# Altium integrated library Lattice CPLD ispMACH 4000Z.IntLib: 102 symbols (part 2 of 11)
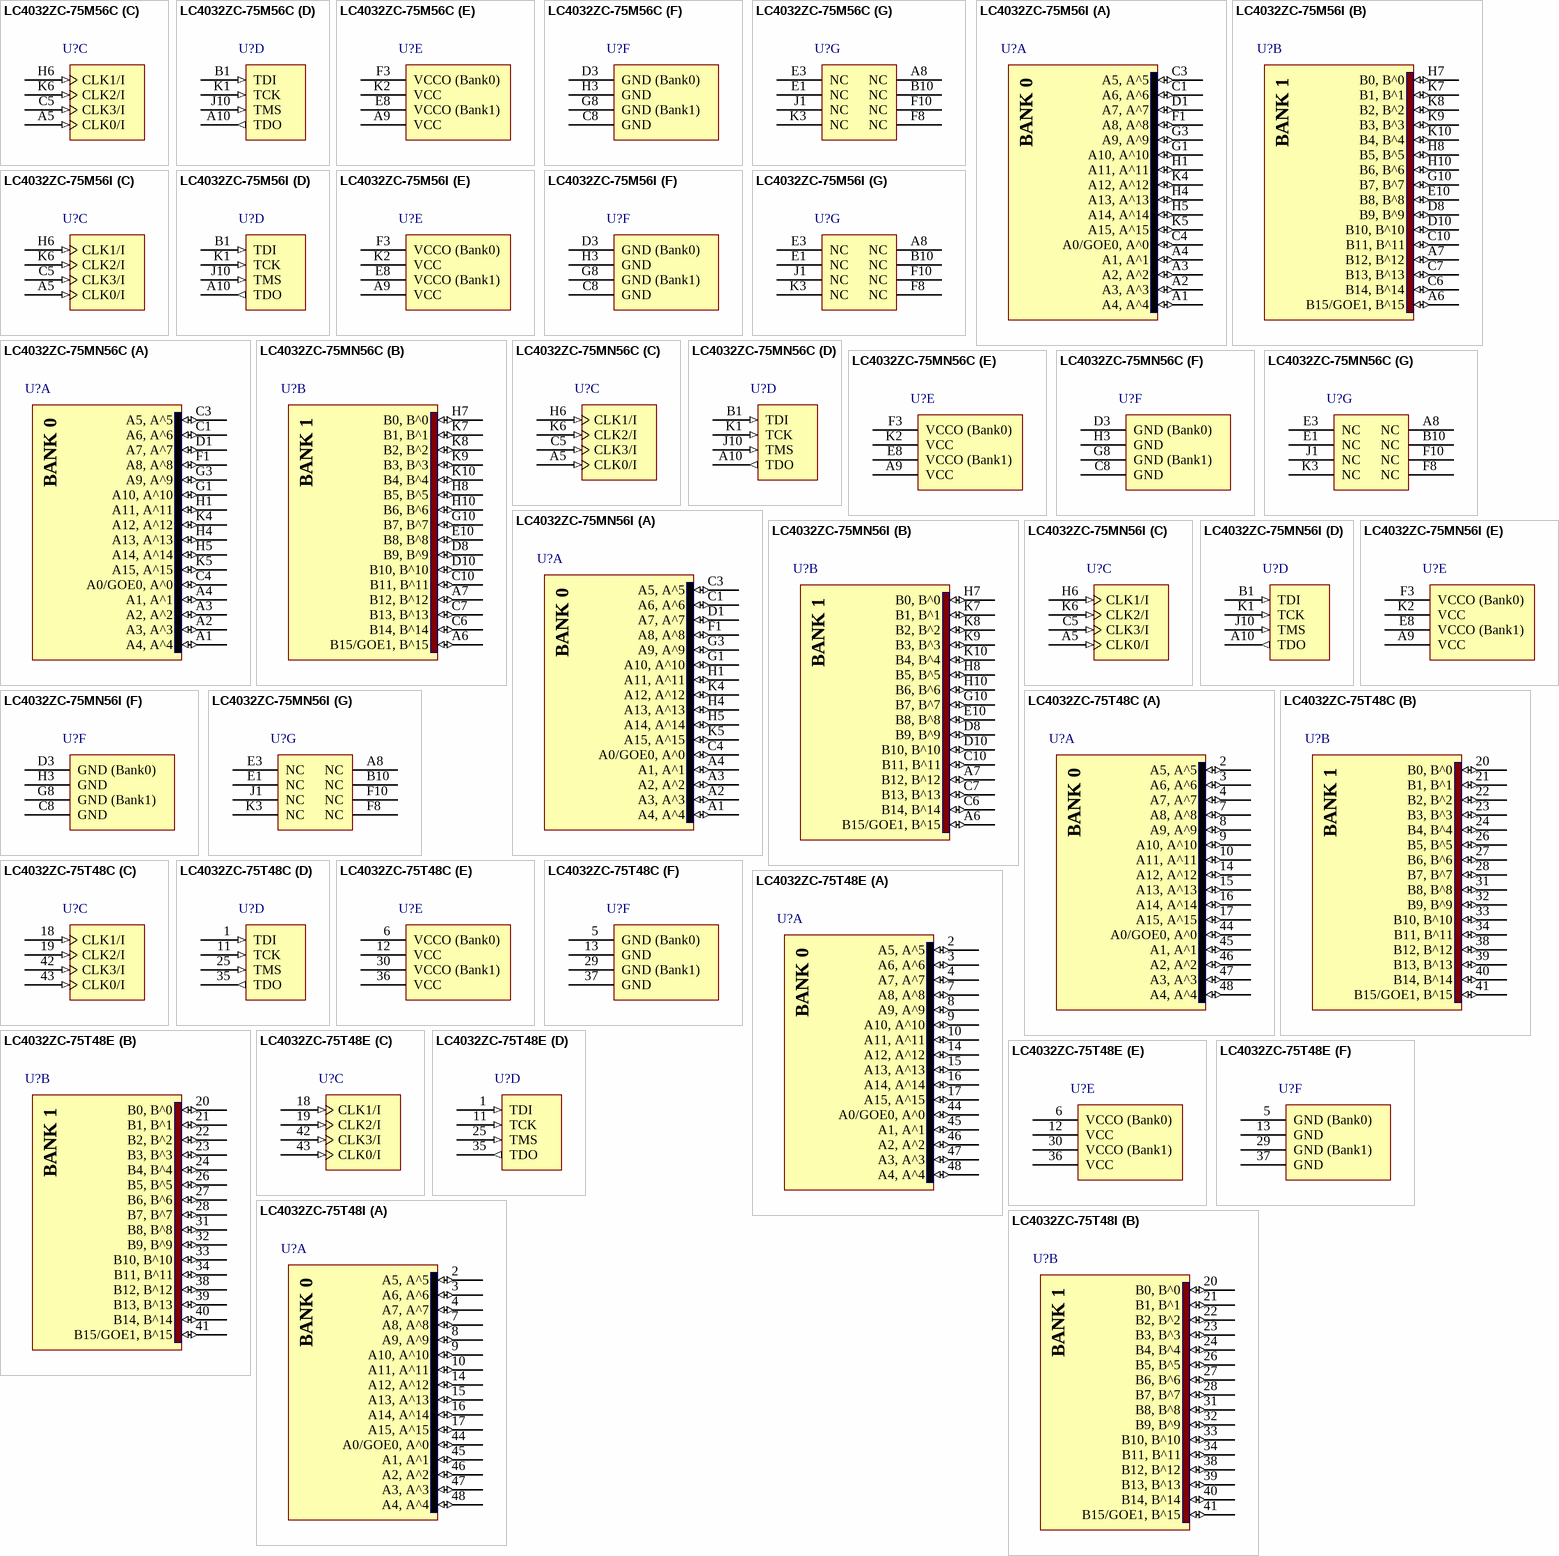
[diagram p29: symbols LC4032ZC-75M56C to LC4032ZC-75T48I]

## LC4032ZC-75MN56C
designator U?
ispMACH 4032 SuperFAST High Density PLD, 1.8 V, 32 User I/Os, 56-Ball caBGA, 7.5 ns, Commercial Grade, Pb-Free; Note: For device migration considerations, NC pins K3, J1, F10, F8, E3, E1, B10, A8 are input signal pins in ispMACH 4064Z devices.; Published: 19-Mar-2004; LatestRevisionDate: 30-Mar-2007; LatestRevisionNote: Banks placed in parts.; DatasheetVersion: ver22.3, Mar-2007; PackageVersion: ver01.2 Feb-2007; PackageReference: csBGA56; Publisher: Altium Limited; PackageDescription: 56-Ball Chip Scale Ball Grid Array (csBGA56); ComponentLink1Description: Manufacturer Link; ComponentLink1URL: http://www.latticesemi.com/; ComponentLink2Description: Datasheet; ComponentLink2URL: http://www.latticesemi.com/dynamic/view_document.cfm?document_id=3646
footprint csBGA56 (BGA, 56-Leads, Body 6x6mm, Pitch 0.5mm)
3D model 4032ZC-csBGA56 (56-Ball Chip Scale Ball Grid Array (csBGA56))
part A pins: A1 A4, A^4 (io) "General purpose I/O.", A2 A3, A^3 (io) "General purpose I/O.", A3 A2, A^2 (io) "General purpose I/O.", A4 A1, A^1 (io) "General purpose I/O.", C1 A6, A^6 (io) "General purpose I/O.", C3 A5, A^5 (io) "General purpose I/O.", C4 A0/GOE0, A^0 (io) "Either Global Output Enable Input or general I/O.", D1 A7, A^7 (io) "General purpose I/O.", F1 A8, A^8 (io) "General purpose I/O.", G1 A10, A^10 (io) "General purpose I/O.", G3 A9, A^9 (io) "General purpose I/O.", H1 A11, A^11 (io) "General purpose I/O.", H4 A13, A^13 (io) "General purpose I/O.", H5 A14, A^14 (io) "General purpose I/O.", K4 A12, A^12 (io) "General purpose I/O.", K5 A15, A^15 (io) "General purpose I/O."
part B pins: A6 B15/GOE1, B^15 (io) "Either Global Output Enable Input or general I/O.", A7 B12, B^12 (io) "General purpose I/O.", C6 B14, B^14 (io) "General purpose I/O.", C7 B13, B^13 (io) "General purpose I/O.", C10 B11, B^11 (io) "General purpose I/O.", D8 B9, B^9 (io) "General purpose I/O.", D10 B10, B^10 (io) "General purpose I/O.", E10 B8, B^8 (io) "General purpose I/O.", G10 B7, B^7 (io) "General purpose I/O.", H7 B0, B^0 (io) "General purpose I/O.", H8 B5, B^5 (io) "General purpose I/O.", H10 B6, B^6 (io) "General purpose I/O.", K7 B1, B^1 (io) "General purpose I/O.", K8 B2, B^2 (io) "General purpose I/O.", K9 B3, B^3 (io) "General purpose I/O.", K10 B4, B^4 (io) "General purpose I/O."
part C pins: A5 CLK0/I (in) "Either CLK input or input.", C5 CLK3/I (in) "Either CLK input or input.", H6 CLK1/I (in) "Either CLK input or input.", K6 CLK2/I (in) "Either CLK input or input."
part D pins: A10 TDO (out) "Test Data Output. Shifts data out of device using 1149.1.", B1 TDI (in) "Test Data Input. Loads data into device using 1149.1 state machine.", J10 TMS (in) "Test Mode Select Input to control 1149.1 state machine.", K1 TCK (in) "Test Clock Input for 1149.1 state machine."
part E pins: A9 VCC (power) "Power supply for logic core and JTAG port.", E8 VCCO (Bank1) (power) "Power supply pin for I/O bank.", F3 VCCO (Bank0) (power) "Power supply pin for I/O bank.", K2 VCC (power) "Power supply for logic core and JTAG port."
part F pins: C8 GND (power) "Ground", D3 GND (Bank0) (power) "I/O Ground", G8 GND (Bank1) (power) "I/O Ground", H3 GND (power) "Ground"
part G pins: A8 NC "Not Connected.", B10 NC "Not Connected.", E1 NC "Not Connected.", E3 NC "Not Connected.", F8 NC "Not Connected.", F10 NC "Not Connected.", J1 NC "Not Connected.", K3 NC "Not Connected."
part A text: BANK 0
part B text: BANK 1

## LC4032ZC-75MN56I
designator U?
ispMACH 4032 SuperFAST High Density PLD, 1.8 V, 32 User I/Os, 56-Ball caBGA, 7.5 ns, Industrial Grade, Pb-Free; Note: For device migration considerations, NC pins K3, J1, F10, F8, E3, E1, B10, A8 are input signal pins in ispMACH 4064Z devices.; Published: 19-Mar-2004; LatestRevisionDate: 30-Mar-2007; LatestRevisionNote: Banks placed in parts.; DatasheetVersion: ver22.3, Mar-2007; PackageVersion: ver01.2 Feb-2007; PackageReference: csBGA56; Publisher: Altium Limited; PackageDescription: 56-Ball Chip Scale Ball Grid Array (csBGA56); ComponentLink1Description: Manufacturer Link; ComponentLink1URL: http://www.latticesemi.com/; ComponentLink2Description: Datasheet; ComponentLink2URL: http://www.latticesemi.com/dynamic/view_document.cfm?document_id=3646
footprint csBGA56 (BGA, 56-Leads, Body 6x6mm, Pitch 0.5mm)
3D model 4032ZC-csBGA56 (56-Ball Chip Scale Ball Grid Array (csBGA56))
part A pins: A1 A4, A^4 (io) "General purpose I/O.", A2 A3, A^3 (io) "General purpose I/O.", A3 A2, A^2 (io) "General purpose I/O.", A4 A1, A^1 (io) "General purpose I/O.", C1 A6, A^6 (io) "General purpose I/O.", C3 A5, A^5 (io) "General purpose I/O.", C4 A0/GOE0, A^0 (io) "Either Global Output Enable Input or general I/O.", D1 A7, A^7 (io) "General purpose I/O.", F1 A8, A^8 (io) "General purpose I/O.", G1 A10, A^10 (io) "General purpose I/O.", G3 A9, A^9 (io) "General purpose I/O.", H1 A11, A^11 (io) "General purpose I/O.", H4 A13, A^13 (io) "General purpose I/O.", H5 A14, A^14 (io) "General purpose I/O.", K4 A12, A^12 (io) "General purpose I/O.", K5 A15, A^15 (io) "General purpose I/O."
part B pins: A6 B15/GOE1, B^15 (io) "Either Global Output Enable Input or general I/O.", A7 B12, B^12 (io) "General purpose I/O.", C6 B14, B^14 (io) "General purpose I/O.", C7 B13, B^13 (io) "General purpose I/O.", C10 B11, B^11 (io) "General purpose I/O.", D8 B9, B^9 (io) "General purpose I/O.", D10 B10, B^10 (io) "General purpose I/O.", E10 B8, B^8 (io) "General purpose I/O.", G10 B7, B^7 (io) "General purpose I/O.", H7 B0, B^0 (io) "General purpose I/O.", H8 B5, B^5 (io) "General purpose I/O.", H10 B6, B^6 (io) "General purpose I/O.", K7 B1, B^1 (io) "General purpose I/O.", K8 B2, B^2 (io) "General purpose I/O.", K9 B3, B^3 (io) "General purpose I/O.", K10 B4, B^4 (io) "General purpose I/O."
part C pins: A5 CLK0/I (in) "Either CLK input or input.", C5 CLK3/I (in) "Either CLK input or input.", H6 CLK1/I (in) "Either CLK input or input.", K6 CLK2/I (in) "Either CLK input or input."
part D pins: A10 TDO (out) "Test Data Output. Shifts data out of device using 1149.1.", B1 TDI (in) "Test Data Input. Loads data into device using 1149.1 state machine.", J10 TMS (in) "Test Mode Select Input to control 1149.1 state machine.", K1 TCK (in) "Test Clock Input for 1149.1 state machine."
part E pins: A9 VCC (power) "Power supply for logic core and JTAG port.", E8 VCCO (Bank1) (power) "Power supply pin for I/O bank.", F3 VCCO (Bank0) (power) "Power supply pin for I/O bank.", K2 VCC (power) "Power supply for logic core and JTAG port."
part F pins: C8 GND (power) "Ground", D3 GND (Bank0) (power) "I/O Ground", G8 GND (Bank1) (power) "I/O Ground", H3 GND (power) "Ground"
part G pins: A8 NC "Not Connected.", B10 NC "Not Connected.", E1 NC "Not Connected.", E3 NC "Not Connected.", F8 NC "Not Connected.", F10 NC "Not Connected.", J1 NC "Not Connected.", K3 NC "Not Connected."
part A text: BANK 0
part B text: BANK 1

## LC4032ZC-75T48C
designator U?
ispMACH 4032 SuperFAST High Density PLD, 1.8 V, 32 User I/Os, 48-Pin TQFP, 7.5 ns, Commercial Grade; Published: 17-Dec-2003; LatestRevisionDate: 30-Mar-2007; LatestRevisionNote: Banks placed in parts.; DatasheetVersion: ver22.3, Mar-2007; PackageVersion: ver01.2 Feb-2007; PackageReference: TQFP48(1mm); Publisher: Altium Limited; PackageDescription: 48-Pin Thin Quad Flat Pack 1.0 mm Thick (TQFP48); ComponentLink1Description: Manufacturer Link; ComponentLink1URL: http://www.latticesemi.com/; ComponentLink2Description: Datasheet; ComponentLink2URL: http://www.latticesemi.com/dynamic/view_document.cfm?document_id=3646
footprint TQFP48(1mm)_N (Thin QFP, 48-Leads, Body 7x7mm, Pitch 0.5mm, IPC Medium Density)
footprint TQFP48(1mm)_L (Thin QFP, 48-Leads, Body 7x7mm, Pitch 0.5mm, IPC High Density)
footprint TQFP48(1mm)_M (Thin QFP, 48-Leads, Body 7x7mm, Pitch 0.5mm, IPC Low Density)
3D model 4032ZC-TQFP48 (48-Pin Thin Quad Flat Pack 1.0 mm Thick (TQFP48))
part A pins: 2 A5, A^5 (io) "General purpose I/O.", 3 A6, A^6 (io) "General purpose I/O.", 4 A7, A^7 (io) "General purpose I/O.", 7 A8, A^8 (io) "General purpose I/O.", 8 A9, A^9 (io) "General purpose I/O.", 9 A10, A^10 (io) "General purpose I/O.", 10 A11, A^11 (io) "General purpose I/O.", 14 A12, A^12 (io) "General purpose I/O.", 15 A13, A^13 (io) "General purpose I/O.", 16 A14, A^14 (io) "General purpose I/O.", 17 A15, A^15 (io) "General purpose I/O.", 44 A0/GOE0, A^0 (io) "Either Global Output Enable Input or general I/O.", 45 A1, A^1 (io) "General purpose I/O.", 46 A2, A^2 (io) "General purpose I/O.", 47 A3, A^3 (io) "General purpose I/O.", 48 A4, A^4 (io) "General purpose I/O."
part B pins: 20 B0, B^0 (io) "General purpose I/O.", 21 B1, B^1 (io) "General purpose I/O.", 22 B2, B^2 (io) "General purpose I/O.", 23 B3, B^3 (io) "General purpose I/O.", 24 B4, B^4 (io) "General purpose I/O.", 26 B5, B^5 (io) "General purpose I/O.", 27 B6, B^6 (io) "General purpose I/O.", 28 B7, B^7 (io) "General purpose I/O.", 31 B8, B^8 (io) "General purpose I/O.", 32 B9, B^9 (io) "General purpose I/O.", 33 B10, B^10 (io) "General purpose I/O.", 34 B11, B^11 (io) "General purpose I/O.", 38 B12, B^12 (io) "General purpose I/O.", 39 B13, B^13 (io) "General purpose I/O.", 40 B14, B^14 (io) "General purpose I/O.", 41 B15/GOE1, B^15 (io) "Either Global Output Enable Input or general I/O."
part C pins: 18 CLK1/I (in) "Either CLK input or input.", 19 CLK2/I (in) "Either CLK input or input.", 42 CLK3/I (in) "Either CLK input or input.", 43 CLK0/I (in) "Either CLK input or input."
part D pins: 1 TDI (in) "Test Data Input. Loads data into device using 1149.1 state machine.", 11 TCK (in) "Test Clock Input for 1149.1 state machine.", 25 TMS (in) "Test Mode Select Input to control 1149.1 state machine.", 35 TDO (out) "Test Data Output. Shifts data out of device using 1149.1."
part E pins: 6 VCCO (Bank0) (power) "Power supply pin for I/O bank.", 12 VCC (power) "Power supply for logic core and JTAG port.", 30 VCCO (Bank1) (power) "Power supply pin for I/O bank.", 36 VCC (power) "Power supply for logic core and JTAG port."
part F pins: 5 GND (Bank0) (power) "I/O Ground", 13 GND (power) "Ground", 29 GND (Bank1) (power) "I/O Ground", 37 GND (power) "Ground"
part A text: BANK 0
part B text: BANK 1

## LC4032ZC-75T48E
designator U?
ispMACH 4032 SuperFAST High Density PLD, 1.8 V, 32 User I/Os, 48-Ball TQFP, 7.5 ns, Automotive Grade; Published: 19-Mar-2004; LatestRevisionDate: 30-Mar-2007; LatestRevisionNote: Banks placed in parts.; DatasheetVersion: ver22.3, Mar-2007; PackageVersion: ver01.2 Feb-2007; PackageReference: TQFP48(1mm); Publisher: Altium Limited; PackageDescription: 48-Pin Thin Quad Flat Pack 1.0 mm Thick (TQFP48); ComponentLink1Description: Manufacturer Link; ComponentLink1URL: http://www.latticesemi.com/; ComponentLink2Description: Datasheet; ComponentLink2URL: http://www.latticesemi.com/dynamic/view_document.cfm?document_id=3646
footprint TQFP48(1mm)_N (Thin QFP, 48-Leads, Body 7x7mm, Pitch 0.5mm, IPC Medium Density)
footprint TQFP48(1mm)_L (Thin QFP, 48-Leads, Body 7x7mm, Pitch 0.5mm, IPC High Density)
footprint TQFP48(1mm)_M (Thin QFP, 48-Leads, Body 7x7mm, Pitch 0.5mm, IPC Low Density)
3D model 4032ZC-TQFP48 (48-Pin Thin Quad Flat Pack 1.0 mm Thick (TQFP48))
part A pins: 2 A5, A^5 (io) "General purpose I/O.", 3 A6, A^6 (io) "General purpose I/O.", 4 A7, A^7 (io) "General purpose I/O.", 7 A8, A^8 (io) "General purpose I/O.", 8 A9, A^9 (io) "General purpose I/O.", 9 A10, A^10 (io) "General purpose I/O.", 10 A11, A^11 (io) "General purpose I/O.", 14 A12, A^12 (io) "General purpose I/O.", 15 A13, A^13 (io) "General purpose I/O.", 16 A14, A^14 (io) "General purpose I/O.", 17 A15, A^15 (io) "General purpose I/O.", 44 A0/GOE0, A^0 (io) "Either Global Output Enable Input or general I/O.", 45 A1, A^1 (io) "General purpose I/O.", 46 A2, A^2 (io) "General purpose I/O.", 47 A3, A^3 (io) "General purpose I/O.", 48 A4, A^4 (io) "General purpose I/O."
part B pins: 20 B0, B^0 (io) "General purpose I/O.", 21 B1, B^1 (io) "General purpose I/O.", 22 B2, B^2 (io) "General purpose I/O.", 23 B3, B^3 (io) "General purpose I/O.", 24 B4, B^4 (io) "General purpose I/O.", 26 B5, B^5 (io) "General purpose I/O.", 27 B6, B^6 (io) "General purpose I/O.", 28 B7, B^7 (io) "General purpose I/O.", 31 B8, B^8 (io) "General purpose I/O.", 32 B9, B^9 (io) "General purpose I/O.", 33 B10, B^10 (io) "General purpose I/O.", 34 B11, B^11 (io) "General purpose I/O.", 38 B12, B^12 (io) "General purpose I/O.", 39 B13, B^13 (io) "General purpose I/O.", 40 B14, B^14 (io) "General purpose I/O.", 41 B15/GOE1, B^15 (io) "Either Global Output Enable Input or general I/O."
part C pins: 18 CLK1/I (in) "Either CLK input or input.", 19 CLK2/I (in) "Either CLK input or input.", 42 CLK3/I (in) "Either CLK input or input.", 43 CLK0/I (in) "Either CLK input or input."
part D pins: 1 TDI (in) "Test Data Input. Loads data into device using 1149.1 state machine.", 11 TCK (in) "Test Clock Input for 1149.1 state machine.", 25 TMS (in) "Test Mode Select Input to control 1149.1 state machine.", 35 TDO (out) "Test Data Output. Shifts data out of device using 1149.1."
part E pins: 6 VCCO (Bank0) (power) "Power supply pin for I/O bank.", 12 VCC (power) "Power supply for logic core and JTAG port.", 30 VCCO (Bank1) (power) "Power supply pin for I/O bank.", 36 VCC (power) "Power supply for logic core and JTAG port."
part F pins: 5 GND (Bank0) (power) "I/O Ground", 13 GND (power) "Ground", 29 GND (Bank1) (power) "I/O Ground", 37 GND (power) "Ground"
part A text: BANK 0
part B text: BANK 1

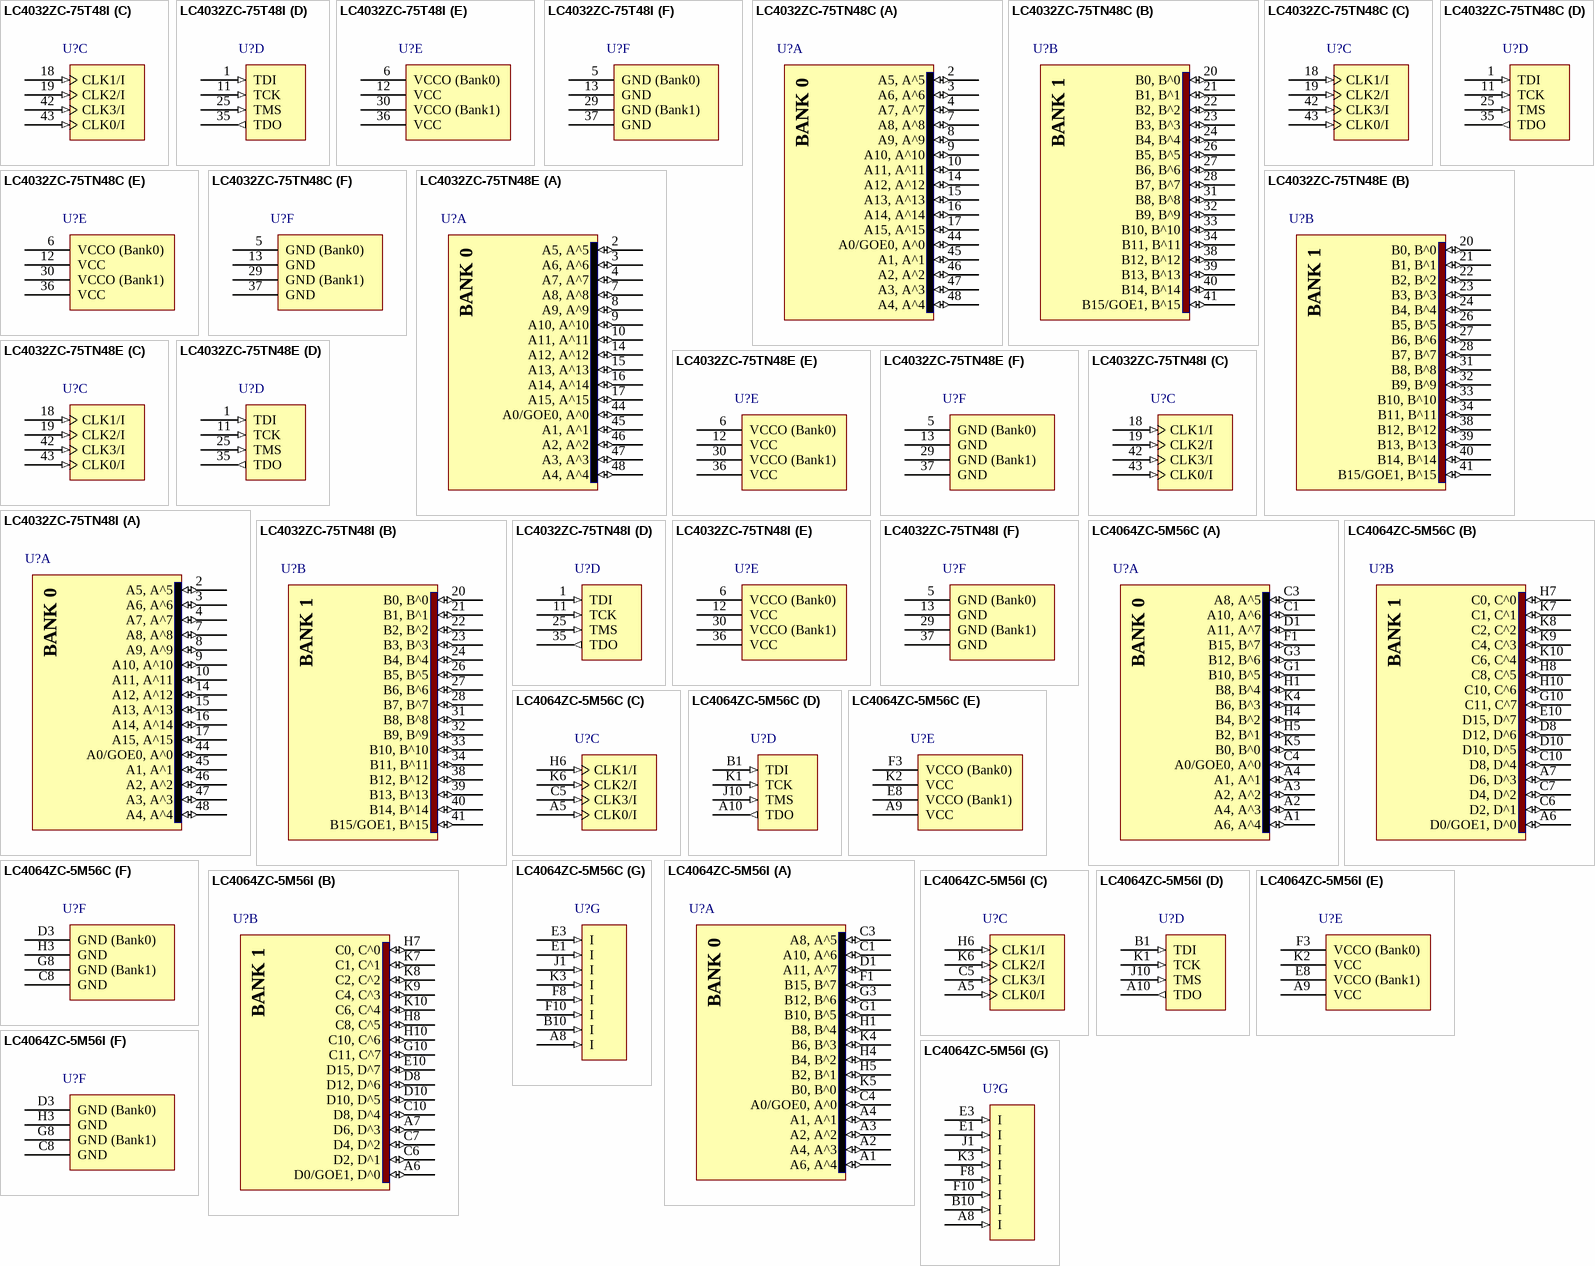
[diagram p3: symbols LC4032ZC-75T48I to LC4064ZC-5M56I]

## LC4032ZC-75T48I
designator U?
ispMACH 4032 SuperFAST High Density PLD, 1.8 V, 32 User I/Os, 48-Ball TQFP, 7.5 ns, Industrial Grade; Published: 19-Mar-2004; LatestRevisionDate: 30-Mar-2007; LatestRevisionNote: Banks placed in parts.; DatasheetVersion: ver22.3, Mar-2007; PackageVersion: ver01.2 Feb-2007; PackageReference: TQFP48(1mm); Publisher: Altium Limited; PackageDescription: 48-Pin Thin Quad Flat Pack 1.0 mm Thick (TQFP48); ComponentLink1Description: Manufacturer Link; ComponentLink1URL: http://www.latticesemi.com/; ComponentLink2Description: Datasheet; ComponentLink2URL: http://www.latticesemi.com/dynamic/view_document.cfm?document_id=3646
footprint TQFP48(1mm)_N (Thin QFP, 48-Leads, Body 7x7mm, Pitch 0.5mm, IPC Medium Density)
footprint TQFP48(1mm)_L (Thin QFP, 48-Leads, Body 7x7mm, Pitch 0.5mm, IPC High Density)
footprint TQFP48(1mm)_M (Thin QFP, 48-Leads, Body 7x7mm, Pitch 0.5mm, IPC Low Density)
3D model 4032ZC-TQFP48 (48-Pin Thin Quad Flat Pack 1.0 mm Thick (TQFP48))
part A pins: 2 A5, A^5 (io) "General purpose I/O.", 3 A6, A^6 (io) "General purpose I/O.", 4 A7, A^7 (io) "General purpose I/O.", 7 A8, A^8 (io) "General purpose I/O.", 8 A9, A^9 (io) "General purpose I/O.", 9 A10, A^10 (io) "General purpose I/O.", 10 A11, A^11 (io) "General purpose I/O.", 14 A12, A^12 (io) "General purpose I/O.", 15 A13, A^13 (io) "General purpose I/O.", 16 A14, A^14 (io) "General purpose I/O.", 17 A15, A^15 (io) "General purpose I/O.", 44 A0/GOE0, A^0 (io) "Either Global Output Enable Input or general I/O.", 45 A1, A^1 (io) "General purpose I/O.", 46 A2, A^2 (io) "General purpose I/O.", 47 A3, A^3 (io) "General purpose I/O.", 48 A4, A^4 (io) "General purpose I/O."
part B pins: 20 B0, B^0 (io) "General purpose I/O.", 21 B1, B^1 (io) "General purpose I/O.", 22 B2, B^2 (io) "General purpose I/O.", 23 B3, B^3 (io) "General purpose I/O.", 24 B4, B^4 (io) "General purpose I/O.", 26 B5, B^5 (io) "General purpose I/O.", 27 B6, B^6 (io) "General purpose I/O.", 28 B7, B^7 (io) "General purpose I/O.", 31 B8, B^8 (io) "General purpose I/O.", 32 B9, B^9 (io) "General purpose I/O.", 33 B10, B^10 (io) "General purpose I/O.", 34 B11, B^11 (io) "General purpose I/O.", 38 B12, B^12 (io) "General purpose I/O.", 39 B13, B^13 (io) "General purpose I/O.", 40 B14, B^14 (io) "General purpose I/O.", 41 B15/GOE1, B^15 (io) "Either Global Output Enable Input or general I/O."
part C pins: 18 CLK1/I (in) "Either CLK input or input.", 19 CLK2/I (in) "Either CLK input or input.", 42 CLK3/I (in) "Either CLK input or input.", 43 CLK0/I (in) "Either CLK input or input."
part D pins: 1 TDI (in) "Test Data Input. Loads data into device using 1149.1 state machine.", 11 TCK (in) "Test Clock Input for 1149.1 state machine.", 25 TMS (in) "Test Mode Select Input to control 1149.1 state machine.", 35 TDO (out) "Test Data Output. Shifts data out of device using 1149.1."
part E pins: 6 VCCO (Bank0) (power) "Power supply pin for I/O bank.", 12 VCC (power) "Power supply for logic core and JTAG port.", 30 VCCO (Bank1) (power) "Power supply pin for I/O bank.", 36 VCC (power) "Power supply for logic core and JTAG port."
part F pins: 5 GND (Bank0) (power) "I/O Ground", 13 GND (power) "Ground", 29 GND (Bank1) (power) "I/O Ground", 37 GND (power) "Ground"
part A text: BANK 0
part B text: BANK 1

## LC4032ZC-75TN48C
designator U?
ispMACH 4032 SuperFAST High Density PLD, 1.8 V, 32 User I/Os, 48-Pin TQFP, 7.5 ns, Commercial Grade, Pb-Free; Published: 19-Mar-2004; LatestRevisionDate: 30-Mar-2007; LatestRevisionNote: Banks placed in parts.; DatasheetVersion: ver22.3, Mar-2007; PackageVersion: ver01.2 Feb-2007; PackageReference: TQFP48(1mm); Publisher: Altium Limited; PackageDescription: 48-Pin Thin Quad Flat Pack 1.0 mm Thick (TQFP48); ComponentLink1Description: Manufacturer Link; ComponentLink1URL: http://www.latticesemi.com/; ComponentLink2Description: Datasheet; ComponentLink2URL: http://www.latticesemi.com/dynamic/view_document.cfm?document_id=3646
footprint TQFP48(1mm)_N (Thin QFP, 48-Leads, Body 7x7mm, Pitch 0.5mm, IPC Medium Density)
footprint TQFP48(1mm)_L (Thin QFP, 48-Leads, Body 7x7mm, Pitch 0.5mm, IPC High Density)
footprint TQFP48(1mm)_M (Thin QFP, 48-Leads, Body 7x7mm, Pitch 0.5mm, IPC Low Density)
3D model 4032ZC-TQFP48 (48-Pin Thin Quad Flat Pack 1.0 mm Thick (TQFP48))
part A pins: 2 A5, A^5 (io) "General purpose I/O.", 3 A6, A^6 (io) "General purpose I/O.", 4 A7, A^7 (io) "General purpose I/O.", 7 A8, A^8 (io) "General purpose I/O.", 8 A9, A^9 (io) "General purpose I/O.", 9 A10, A^10 (io) "General purpose I/O.", 10 A11, A^11 (io) "General purpose I/O.", 14 A12, A^12 (io) "General purpose I/O.", 15 A13, A^13 (io) "General purpose I/O.", 16 A14, A^14 (io) "General purpose I/O.", 17 A15, A^15 (io) "General purpose I/O.", 44 A0/GOE0, A^0 (io) "Either Global Output Enable Input or general I/O.", 45 A1, A^1 (io) "General purpose I/O.", 46 A2, A^2 (io) "General purpose I/O.", 47 A3, A^3 (io) "General purpose I/O.", 48 A4, A^4 (io) "General purpose I/O."
part B pins: 20 B0, B^0 (io) "General purpose I/O.", 21 B1, B^1 (io) "General purpose I/O.", 22 B2, B^2 (io) "General purpose I/O.", 23 B3, B^3 (io) "General purpose I/O.", 24 B4, B^4 (io) "General purpose I/O.", 26 B5, B^5 (io) "General purpose I/O.", 27 B6, B^6 (io) "General purpose I/O.", 28 B7, B^7 (io) "General purpose I/O.", 31 B8, B^8 (io) "General purpose I/O.", 32 B9, B^9 (io) "General purpose I/O.", 33 B10, B^10 (io) "General purpose I/O.", 34 B11, B^11 (io) "General purpose I/O.", 38 B12, B^12 (io) "General purpose I/O.", 39 B13, B^13 (io) "General purpose I/O.", 40 B14, B^14 (io) "General purpose I/O.", 41 B15/GOE1, B^15 (io) "Either Global Output Enable Input or general I/O."
part C pins: 18 CLK1/I (in) "Either CLK input or input.", 19 CLK2/I (in) "Either CLK input or input.", 42 CLK3/I (in) "Either CLK input or input.", 43 CLK0/I (in) "Either CLK input or input."
part D pins: 1 TDI (in) "Test Data Input. Loads data into device using 1149.1 state machine.", 11 TCK (in) "Test Clock Input for 1149.1 state machine.", 25 TMS (in) "Test Mode Select Input to control 1149.1 state machine.", 35 TDO (out) "Test Data Output. Shifts data out of device using 1149.1."
part E pins: 6 VCCO (Bank0) (power) "Power supply pin for I/O bank.", 12 VCC (power) "Power supply for logic core and JTAG port.", 30 VCCO (Bank1) (power) "Power supply pin for I/O bank.", 36 VCC (power) "Power supply for logic core and JTAG port."
part F pins: 5 GND (Bank0) (power) "I/O Ground", 13 GND (power) "Ground", 29 GND (Bank1) (power) "I/O Ground", 37 GND (power) "Ground"
part A text: BANK 0
part B text: BANK 1

## LC4032ZC-75TN48E
designator U?
ispMACH 4032 SuperFAST High Density PLD, 1.8 V, 32 User I/Os, 48-Ball TQFP, 7.5 ns, Automotive Grade, Pb-Free; Published: 19-Mar-2004; LatestRevisionDate: 30-Mar-2007; LatestRevisionNote: Banks placed in parts.; DatasheetVersion: ver22.3, Mar-2007; PackageVersion: ver01.2 Feb-2007; PackageReference: TQFP48(1mm); Publisher: Altium Limited; PackageDescription: 48-Pin Thin Quad Flat Pack 1.0 mm Thick (TQFP48); ComponentLink1Description: Manufacturer Link; ComponentLink1URL: http://www.latticesemi.com/; ComponentLink2Description: Datasheet; ComponentLink2URL: http://www.latticesemi.com/dynamic/view_document.cfm?document_id=3646
footprint TQFP48(1mm)_N (Thin QFP, 48-Leads, Body 7x7mm, Pitch 0.5mm, IPC Medium Density)
footprint TQFP48(1mm)_L (Thin QFP, 48-Leads, Body 7x7mm, Pitch 0.5mm, IPC High Density)
footprint TQFP48(1mm)_M (Thin QFP, 48-Leads, Body 7x7mm, Pitch 0.5mm, IPC Low Density)
3D model 4032ZC-TQFP48 (48-Pin Thin Quad Flat Pack 1.0 mm Thick (TQFP48))
part A pins: 2 A5, A^5 (io) "General purpose I/O.", 3 A6, A^6 (io) "General purpose I/O.", 4 A7, A^7 (io) "General purpose I/O.", 7 A8, A^8 (io) "General purpose I/O.", 8 A9, A^9 (io) "General purpose I/O.", 9 A10, A^10 (io) "General purpose I/O.", 10 A11, A^11 (io) "General purpose I/O.", 14 A12, A^12 (io) "General purpose I/O.", 15 A13, A^13 (io) "General purpose I/O.", 16 A14, A^14 (io) "General purpose I/O.", 17 A15, A^15 (io) "General purpose I/O.", 44 A0/GOE0, A^0 (io) "Either Global Output Enable Input or general I/O.", 45 A1, A^1 (io) "General purpose I/O.", 46 A2, A^2 (io) "General purpose I/O.", 47 A3, A^3 (io) "General purpose I/O.", 48 A4, A^4 (io) "General purpose I/O."
part B pins: 20 B0, B^0 (io) "General purpose I/O.", 21 B1, B^1 (io) "General purpose I/O.", 22 B2, B^2 (io) "General purpose I/O.", 23 B3, B^3 (io) "General purpose I/O.", 24 B4, B^4 (io) "General purpose I/O.", 26 B5, B^5 (io) "General purpose I/O.", 27 B6, B^6 (io) "General purpose I/O.", 28 B7, B^7 (io) "General purpose I/O.", 31 B8, B^8 (io) "General purpose I/O.", 32 B9, B^9 (io) "General purpose I/O.", 33 B10, B^10 (io) "General purpose I/O.", 34 B11, B^11 (io) "General purpose I/O.", 38 B12, B^12 (io) "General purpose I/O.", 39 B13, B^13 (io) "General purpose I/O.", 40 B14, B^14 (io) "General purpose I/O.", 41 B15/GOE1, B^15 (io) "Either Global Output Enable Input or general I/O."
part C pins: 18 CLK1/I (in) "Either CLK input or input.", 19 CLK2/I (in) "Either CLK input or input.", 42 CLK3/I (in) "Either CLK input or input.", 43 CLK0/I (in) "Either CLK input or input."
part D pins: 1 TDI (in) "Test Data Input. Loads data into device using 1149.1 state machine.", 11 TCK (in) "Test Clock Input for 1149.1 state machine.", 25 TMS (in) "Test Mode Select Input to control 1149.1 state machine.", 35 TDO (out) "Test Data Output. Shifts data out of device using 1149.1."
part E pins: 6 VCCO (Bank0) (power) "Power supply pin for I/O bank.", 12 VCC (power) "Power supply for logic core and JTAG port.", 30 VCCO (Bank1) (power) "Power supply pin for I/O bank.", 36 VCC (power) "Power supply for logic core and JTAG port."
part F pins: 5 GND (Bank0) (power) "I/O Ground", 13 GND (power) "Ground", 29 GND (Bank1) (power) "I/O Ground", 37 GND (power) "Ground"
part A text: BANK 0
part B text: BANK 1

## LC4032ZC-75TN48I
designator U?
ispMACH 4032 SuperFAST High Density PLD, 1.8 V, 32 User I/Os, 48-Ball TQFP, 7.5 ns, Industrial Grade, Pb-Free; Published: 19-Mar-2004; LatestRevisionDate: 30-Mar-2007; LatestRevisionNote: Banks placed in parts.; DatasheetVersion: ver22.3, Mar-2007; PackageVersion: ver01.2 Feb-2007; PackageReference: TQFP48(1mm); Publisher: Altium Limited; PackageDescription: 48-Pin Thin Quad Flat Pack 1.0 mm Thick (TQFP48); ComponentLink1Description: Manufacturer Link; ComponentLink1URL: http://www.latticesemi.com/; ComponentLink2Description: Datasheet; ComponentLink2URL: http://www.latticesemi.com/dynamic/view_document.cfm?document_id=3646
footprint TQFP48(1mm)_N (Thin QFP, 48-Leads, Body 7x7mm, Pitch 0.5mm, IPC Medium Density)
footprint TQFP48(1mm)_L (Thin QFP, 48-Leads, Body 7x7mm, Pitch 0.5mm, IPC High Density)
footprint TQFP48(1mm)_M (Thin QFP, 48-Leads, Body 7x7mm, Pitch 0.5mm, IPC Low Density)
3D model 4032ZC-TQFP48 (48-Pin Thin Quad Flat Pack 1.0 mm Thick (TQFP48))
part A pins: 2 A5, A^5 (io) "General purpose I/O.", 3 A6, A^6 (io) "General purpose I/O.", 4 A7, A^7 (io) "General purpose I/O.", 7 A8, A^8 (io) "General purpose I/O.", 8 A9, A^9 (io) "General purpose I/O.", 9 A10, A^10 (io) "General purpose I/O.", 10 A11, A^11 (io) "General purpose I/O.", 14 A12, A^12 (io) "General purpose I/O.", 15 A13, A^13 (io) "General purpose I/O.", 16 A14, A^14 (io) "General purpose I/O.", 17 A15, A^15 (io) "General purpose I/O.", 44 A0/GOE0, A^0 (io) "Either Global Output Enable Input or general I/O.", 45 A1, A^1 (io) "General purpose I/O.", 46 A2, A^2 (io) "General purpose I/O.", 47 A3, A^3 (io) "General purpose I/O.", 48 A4, A^4 (io) "General purpose I/O."
part B pins: 20 B0, B^0 (io) "General purpose I/O.", 21 B1, B^1 (io) "General purpose I/O.", 22 B2, B^2 (io) "General purpose I/O.", 23 B3, B^3 (io) "General purpose I/O.", 24 B4, B^4 (io) "General purpose I/O.", 26 B5, B^5 (io) "General purpose I/O.", 27 B6, B^6 (io) "General purpose I/O.", 28 B7, B^7 (io) "General purpose I/O.", 31 B8, B^8 (io) "General purpose I/O.", 32 B9, B^9 (io) "General purpose I/O.", 33 B10, B^10 (io) "General purpose I/O.", 34 B11, B^11 (io) "General purpose I/O.", 38 B12, B^12 (io) "General purpose I/O.", 39 B13, B^13 (io) "General purpose I/O.", 40 B14, B^14 (io) "General purpose I/O.", 41 B15/GOE1, B^15 (io) "Either Global Output Enable Input or general I/O."
part C pins: 18 CLK1/I (in) "Either CLK input or input.", 19 CLK2/I (in) "Either CLK input or input.", 42 CLK3/I (in) "Either CLK input or input.", 43 CLK0/I (in) "Either CLK input or input."
part D pins: 1 TDI (in) "Test Data Input. Loads data into device using 1149.1 state machine.", 11 TCK (in) "Test Clock Input for 1149.1 state machine.", 25 TMS (in) "Test Mode Select Input to control 1149.1 state machine.", 35 TDO (out) "Test Data Output. Shifts data out of device using 1149.1."
part E pins: 6 VCCO (Bank0) (power) "Power supply pin for I/O bank.", 12 VCC (power) "Power supply for logic core and JTAG port.", 30 VCCO (Bank1) (power) "Power supply pin for I/O bank.", 36 VCC (power) "Power supply for logic core and JTAG port."
part F pins: 5 GND (Bank0) (power) "I/O Ground", 13 GND (power) "Ground", 29 GND (Bank1) (power) "I/O Ground", 37 GND (power) "Ground"
part A text: BANK 0
part B text: BANK 1

## LC4064ZC-5M56C
designator U?
ispMACH 4064 SuperFAST High Density PLD, 1.8 V, 32 User I/Os, 56-Ball caBGA, 5.0 ns, Commercial Grade; Note: For device migration considerations, pins K3, J1, F10, F8, E3, E1, B10, A8 are NC in ispMACH 4032Z devices.; Published: 17-Dec-2003; LatestRevisionDate: 30-Mar-2007; LatestRevisionNote: Banks placed in parts.; DatasheetVersion: ver22.3, Mar-2007; PackageVersion: ver01.2 Feb-2007; PackageReference: csBGA56; Publisher: Altium Limited; PackageDescription: 56-Ball Chip Scale Ball Grid Array (csBGA56); ComponentLink1Description: Manufacturer Link; ComponentLink1URL: http://www.latticesemi.com/; ComponentLink2Description: Datasheet; ComponentLink2URL: http://www.latticesemi.com/dynamic/view_document.cfm?document_id=3646
footprint csBGA56 (BGA, 56-Leads, Body 6x6mm, Pitch 0.5mm)
3D model 4064ZC-csBGA56 (56-Ball Chip Scale Ball Grid Array (csBGA56))
part A pins: A1 A6, A^4 (io) "General purpose I/O.", A2 A4, A^3 (io) "General purpose I/O.", A3 A2, A^2 (io) "General purpose I/O.", A4 A1, A^1 (io) "General purpose I/O.", C1 A10, A^6 (io) "General purpose I/O.", C3 A8, A^5 (io) "General purpose I/O.", C4 A0/GOE0, A^0 (io) "Either Global Output Enable Input or general I/O.", D1 A11, A^7 (io) "General purpose I/O.", F1 B15, B^7 (io) "General purpose I/O.", G1 B10, B^5 (io) "General purpose I/O.", G3 B12, B^6 (io) "General purpose I/O.", H1 B8, B^4 (io) "General purpose I/O.", H4 B4, B^2 (io) "General purpose I/O.", H5 B2, B^1 (io) "General purpose I/O.", K4 B6, B^3 (io) "General purpose I/O.", K5 B0, B^0 (io) "General purpose I/O."
part B pins: A6 D0/GOE1, D^0 (io) "Either Global Output Enable Input or general I/O.", A7 D6, D^3 (io) "General purpose I/O.", C6 D2, D^1 (io) "General purpose I/O.", C7 D4, D^2 (io) "General purpose I/O.", C10 D8, D^4 (io) "General purpose I/O.", D8 D12, D^6 (io) "General purpose I/O.", D10 D10, D^5 (io) "General purpose I/O.", E10 D15, D^7 (io) "General purpose I/O.", G10 C11, C^7 (io) "General purpose I/O.", H7 C0, C^0 (io) "General purpose I/O.", H8 C8, C^5 (io) "General purpose I/O.", H10 C10, C^6 (io) "General purpose I/O.", K7 C1, C^1 (io) "General purpose I/O.", K8 C2, C^2 (io) "General purpose I/O.", K9 C4, C^3 (io) "General purpose I/O.", K10 C6, C^4 (io) "General purpose I/O."
part C pins: A5 CLK0/I (in) "Either CLK input or input.", C5 CLK3/I (in) "Either CLK input or input.", H6 CLK1/I (in) "Either CLK input or input.", K6 CLK2/I (in) "Either CLK input or input."
part D pins: A10 TDO (out) "Test Data Output. Shifts data out of device using 1149.1.", B1 TDI (in) "Test Data Input. Loads data into device using 1149.1 state machine.", J10 TMS (in) "Test Mode Select Input to control 1149.1 state machine.", K1 TCK (in) "Test Clock Input for 1149.1 state machine."
part E pins: A9 VCC (power) "Power supply for logic core and JTAG port.", E8 VCCO (Bank1) (power) "Power supply pin for I/O bank.", F3 VCCO (Bank0) (power) "Power supply pin for I/O bank.", K2 VCC (power) "Power supply for logic core and JTAG port."
part F pins: C8 GND (power) "Ground", D3 GND (Bank0) (power) "I/O Ground", G8 GND (Bank1) (power) "I/O Ground", H3 GND (power) "Ground"
part G pins: A8 I (in) "Input Signal Pin.", B10 I (in) "Input Signal Pin.", E1 I (in) "Input Signal Pin.", E3 I (in) "Input Signal Pin.", F8 I (in) "Input Signal Pin.", F10 I (in) "Input Signal Pin.", J1 I (in) "Input Signal Pin.", K3 I (in) "Input Signal Pin."
part A text: BANK 0
part B text: BANK 1

## LC4064ZC-5M56I
designator U?
ispMACH 4064 SuperFAST High Density PLD, 1.8 V, 32 User I/Os, 56-Ball caBGA, 5.0 ns, Industrial Grade; Note: For device migration considerations, pins K3, J1, F10, F8, E3, E1, B10, A8 are NC in ispMACH 4032Z devices.; Published: 19-Mar-2004; LatestRevisionDate: 30-Mar-2007; LatestRevisionNote: Banks placed in parts.; DatasheetVersion: ver22.3, Mar-2007; PackageVersion: ver01.2 Feb-2007; PackageReference: csBGA56; Publisher: Altium Limited; PackageDescription: 56-Ball Chip Scale Ball Grid Array (csBGA56); ComponentLink1Description: Manufacturer Link; ComponentLink1URL: http://www.latticesemi.com/; ComponentLink2Description: Datasheet; ComponentLink2URL: http://www.latticesemi.com/dynamic/view_document.cfm?document_id=3646
footprint csBGA56 (BGA, 56-Leads, Body 6x6mm, Pitch 0.5mm)
3D model 4064ZC-csBGA56 (56-Ball Chip Scale Ball Grid Array (csBGA56))
part A pins: A1 A6, A^4 (io) "General purpose I/O.", A2 A4, A^3 (io) "General purpose I/O.", A3 A2, A^2 (io) "General purpose I/O.", A4 A1, A^1 (io) "General purpose I/O.", C1 A10, A^6 (io) "General purpose I/O.", C3 A8, A^5 (io) "General purpose I/O.", C4 A0/GOE0, A^0 (io) "Either Global Output Enable Input or general I/O.", D1 A11, A^7 (io) "General purpose I/O.", F1 B15, B^7 (io) "General purpose I/O.", G1 B10, B^5 (io) "General purpose I/O.", G3 B12, B^6 (io) "General purpose I/O.", H1 B8, B^4 (io) "General purpose I/O.", H4 B4, B^2 (io) "General purpose I/O.", H5 B2, B^1 (io) "General purpose I/O.", K4 B6, B^3 (io) "General purpose I/O.", K5 B0, B^0 (io) "General purpose I/O."
part B pins: A6 D0/GOE1, D^0 (io) "Either Global Output Enable Input or general I/O.", A7 D6, D^3 (io) "General purpose I/O.", C6 D2, D^1 (io) "General purpose I/O.", C7 D4, D^2 (io) "General purpose I/O.", C10 D8, D^4 (io) "General purpose I/O.", D8 D12, D^6 (io) "General purpose I/O.", D10 D10, D^5 (io) "General purpose I/O.", E10 D15, D^7 (io) "General purpose I/O.", G10 C11, C^7 (io) "General purpose I/O.", H7 C0, C^0 (io) "General purpose I/O.", H8 C8, C^5 (io) "General purpose I/O.", H10 C10, C^6 (io) "General purpose I/O.", K7 C1, C^1 (io) "General purpose I/O.", K8 C2, C^2 (io) "General purpose I/O.", K9 C4, C^3 (io) "General purpose I/O.", K10 C6, C^4 (io) "General purpose I/O."
part C pins: A5 CLK0/I (in) "Either CLK input or input.", C5 CLK3/I (in) "Either CLK input or input.", H6 CLK1/I (in) "Either CLK input or input.", K6 CLK2/I (in) "Either CLK input or input."
part D pins: A10 TDO (out) "Test Data Output. Shifts data out of device using 1149.1.", B1 TDI (in) "Test Data Input. Loads data into device using 1149.1 state machine.", J10 TMS (in) "Test Mode Select Input to control 1149.1 state machine.", K1 TCK (in) "Test Clock Input for 1149.1 state machine."
part E pins: A9 VCC (power) "Power supply for logic core and JTAG port.", E8 VCCO (Bank1) (power) "Power supply pin for I/O bank.", F3 VCCO (Bank0) (power) "Power supply pin for I/O bank.", K2 VCC (power) "Power supply for logic core and JTAG port."
part F pins: C8 GND (power) "Ground", D3 GND (Bank0) (power) "I/O Ground", G8 GND (Bank1) (power) "I/O Ground", H3 GND (power) "Ground"
part G pins: A8 I (in) "Input Signal Pin.", B10 I (in) "Input Signal Pin.", E1 I (in) "Input Signal Pin.", E3 I (in) "Input Signal Pin.", F8 I (in) "Input Signal Pin.", F10 I (in) "Input Signal Pin.", J1 I (in) "Input Signal Pin.", K3 I (in) "Input Signal Pin."
part A text: BANK 0
part B text: BANK 1

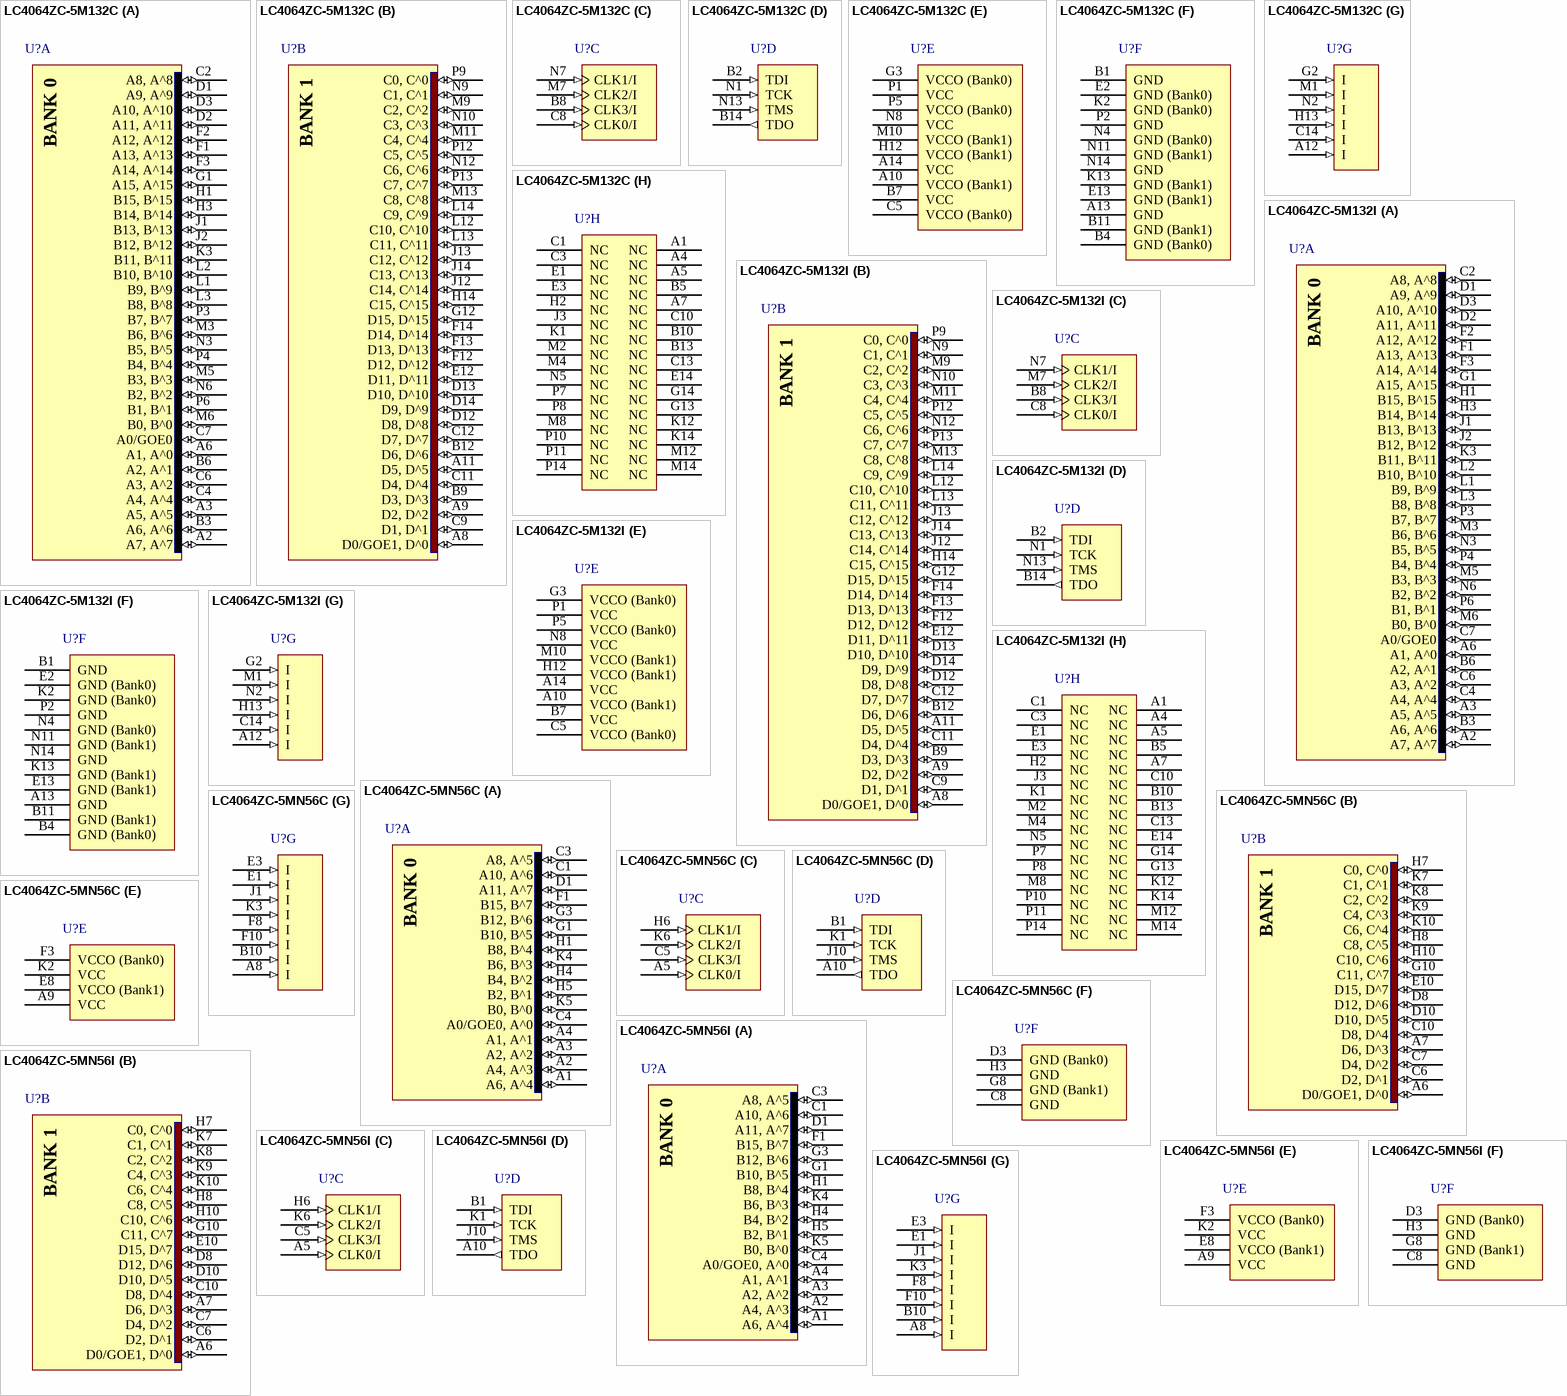
[diagram p4: symbols LC4064ZC-5M132C to LC4064ZC-5MN56I]

## LC4064ZC-5M132C
designator U?
ispMACH 4064 SuperFAST High Density PLD, 1.8 V, 64 User I/Os, 132-Ball caBGA, 5.0 ns, Commercial Grade; Note: Contact factory for product availability.; Published: 19-Mar-2004; LatestRevisionDate: 30-Mar-2007; LatestRevisionNote: Banks placed in parts.; DatasheetVersion: ver22.3, Mar-2007; PackageVersion: ver01.2 Feb-2007; PackageReference: csBGA132; Publisher: Altium Limited; PackageDescription: 132-Ball Chip Scale Ball Grid Array (csBGA132); ComponentLink1Description: Manufacturer Link; ComponentLink1URL: http://www.latticesemi.com/; ComponentLink2Description: Datasheet; ComponentLink2URL: http://www.latticesemi.com/dynamic/view_document.cfm?document_id=3646
footprint csBGA132 (BGA, 132-Leads, Body 8x8mm, Pitch 0.5mm)
3D model 4064ZC-csBGA132 (132-Ball Chip Scale Ball Grid Array (csBGA132))
part A pins: A2 A7, A^7 (io) "General purpose I/O.", A3 A5, A^5 (io) "General purpose I/O.", A6 A1, A^0 (io) "General purpose I/O.", B3 A6, A^6 (io) "General purpose I/O.", B6 A2, A^1 (io) "General purpose I/O.", C2 A8, A^8 (io) "General purpose I/O.", C4 A4, A^4 (io) "General purpose I/O.", C6 A3, A^2 (io) "General purpose I/O.", C7 A0/GOE0 (io) "Either Global Output Enable Input or general I/O.", D1 A9, A^9 (io) "General purpose I/O.", D2 A11, A^11 (io) "General purpose I/O.", D3 A10, A^10 (io) "General purpose I/O.", F1 A13, A^13 (io) "General purpose I/O.", F2 A12, A^12 (io) "General purpose I/O.", F3 A14, A^14 (io) "General purpose I/O.", G1 A15, A^15 (io) "General purpose I/O.", H1 B15, B^15 (io) "General purpose I/O.", H3 B14, B^14 (io) "General purpose I/O.", J1 B13, B^13 (io) "General purpose I/O.", J2 B12, B^12 (io) "General purpose I/O.", K3 B11, B^11 (io) "General purpose I/O.", L1 B9, B^9 (io) "General purpose I/O.", L2 B10, B^10 (io) "General purpose I/O.", L3 B8, B^8 (io) "General purpose I/O.", M3 B6, B^6 (io) "General purpose I/O.", M5 B3, B^3 (io) "General purpose I/O.", M6 B0, B^0 (io) "General purpose I/O.", N3 B5, B^5 (io) "General purpose I/O.", N6 B2, B^2 (io) "General purpose I/O.", P3 B7, B^7 (io) "General purpose I/O.", P4 B4, B^4 (io) "General purpose I/O.", P6 B1, B^1 (io) "General purpose I/O."
part B pins: A8 D0/GOE1, D^0 (io) "Either Global Output Enable Input or general I/O.", A9 D2, D^2 (io) "General purpose I/O.", A11 D5, D^5 (io) "General purpose I/O.", B9 D3, D^3 (io) "General purpose I/O.", B12 D6, D^6 (io) "General purpose I/O.", C9 D1, D^1 (io) "General purpose I/O.", C11 D4, D^4 (io) "General purpose I/O.", C12 D7, D^7 (io) "General purpose I/O.", D12 D8, D^8 (io) "General purpose I/O.", D13 D10, D^10 (io) "General purpose I/O.", D14 D9, D^9 (io) "General purpose I/O.", E12 D11, D^11 (io) "General purpose I/O.", F12 D12, D^12 (io) "General purpose I/O.", F13 D13, D^13 (io) "General purpose I/O.", F14 D14, D^14 (io) "General purpose I/O.", G12 D15, D^15 (io) "General purpose I/O.", H14 C15, C^15 (io) "General purpose I/O.", J12 C14, C^14 (io) "General purpose I/O.", J13 C12, C^12 (io) "General purpose I/O.", J14 C13, C^13 (io) "General purpose I/O.", L12 C10, C^10 (io) "General purpose I/O.", L13 C11, C^11 (io) "General purpose I/O.", L14 C9, C^9 (io) "General purpose I/O.", M9 C2, C^2 (io) "General purpose I/O.", M11 C4, C^4 (io) "General purpose I/O.", M13 C8, C^8 (io) "General purpose I/O.", N9 C1, C^1 (io) "General purpose I/O.", N10 C3, C^3 (io) "General purpose I/O.", N12 C6, C^6 (io) "General purpose I/O.", P9 C0, C^0 (io) "General purpose I/O.", P12 C5, C^5 (io) "General purpose I/O.", P13 C7, C^7 (io) "General purpose I/O."
part C pins: B8 CLK3/I (in) "Either CLK input or input.", C8 CLK0/I (in) "Either CLK input or input.", M7 CLK2/I (in) "Either CLK input or input.", N7 CLK1/I (in) "Either CLK input or input."
part D pins: B2 TDI (in) "Test Data Input. Loads data into device using 1149.1 state machine.", B14 TDO (out) "Test Data Output. Shifts data out of device using 1149.1.", N1 TCK (in) "Test Clock Input for 1149.1 state machine.", N13 TMS (in) "Test Mode Select Input to control 1149.1 state machine."
part E pins: A10 VCCO (Bank1) (power) "Power supply pin for I/O bank.", A14 VCC (power) "Power supply for logic core and JTAG port.", B7 VCC (power) "Power supply for logic core and JTAG port.", C5 VCCO (Bank0) (power) "Power supply pin for I/O bank.", G3 VCCO (Bank0) (power) "Power supply pin for I/O bank.", H12 VCCO (Bank1) (power) "Power supply pin for I/O bank.", M10 VCCO (Bank1) (power) "Power supply pin for I/O bank.", N8 VCC (power) "Power supply for logic core and JTAG port.", P1 VCC (power) "Power supply for logic core and JTAG port.", P5 VCCO (Bank0) (power) "Power supply pin for I/O bank."
part F pins: A13 GND (power) "Ground", B1 GND (power) "Ground", B4 GND (Bank0) (power) "I/O Ground", B11 GND (Bank1) (power) "I/O Ground", E2 GND (Bank0) (power) "I/O Ground", E13 GND (Bank1) (power) "I/O Ground", K2 GND (Bank0) (power) "I/O Ground", K13 GND (Bank1) (power) "I/O Ground", N4 GND (Bank0) (power) "I/O Ground", N11 GND (Bank1) (power) "I/O Ground", N14 GND (power) "Ground", P2 GND (power) "Ground"
part G pins: A12 I (in) "Input Signal Pin.", C14 I (in) "Input Signal Pin.", G2 I (in) "Input Signal Pin.", H13 I (in) "Input Signal Pin.", M1 I (in) "Input Signal Pin.", N2 I (in) "Input Signal Pin."
part H pins: A1 NC "Not Connected.", A4 NC "Not Connected.", A5 NC "Not Connected.", A7 NC "Not Connected.", B5 NC "Not Connected, A^3.", B10 NC "Not Connected.", B13 NC "Not Connected.", C1 NC "Not Connected.", C3 NC "Not Connected.", C10 NC "Not Connected.", C13 NC "Not Connected.", E1 NC "Not Connected.", E3 NC "Not Connected.", E14 NC "Not Connected.", G13 NC "Not Connected.", G14 NC "Not Connected.", H2 NC "Not Connected.", J3 NC "Not Connected.", K1 NC "Not Connected.", K12 NC "Not Connected.", K14 NC "Not Connected.", M2 NC "Not Connected.", M4 NC "Not Connected.", M8 NC "Not Connected.", M12 NC "Not Connected.", M14 NC "Not Connected.", N5 NC "Not Connected.", P7 NC "Not Connected.", P8 NC "Not Connected.", P10 NC "Not Connected.", P11 NC "Not Connected.", P14 NC "Not Connected."
part A text: BANK 0
part B text: BANK 1

## LC4064ZC-5M132I
designator U?
ispMACH 4064 SuperFAST High Density PLD, 1.8 V, 64 User I/Os, 132-Ball caBGA, 5.0 ns, Industrial Grade; Note: Contact factory for product availability.; Published: 19-Mar-2004; LatestRevisionDate: 30-Mar-2007; LatestRevisionNote: Banks placed in parts.; DatasheetVersion: ver22.3, Mar-2007; PackageVersion: ver01.2 Feb-2007; PackageReference: csBGA132; Publisher: Altium Limited; PackageDescription: 132-Ball Chip Scale Ball Grid Array (csBGA132); ComponentLink1Description: Manufacturer Link; ComponentLink1URL: http://www.latticesemi.com/; ComponentLink2Description: Datasheet; ComponentLink2URL: http://www.latticesemi.com/dynamic/view_document.cfm?document_id=3646
footprint csBGA132 (BGA, 132-Leads, Body 8x8mm, Pitch 0.5mm)
3D model 4064ZC-csBGA132 (132-Ball Chip Scale Ball Grid Array (csBGA132))
part A pins: A2 A7, A^7 (io) "General purpose I/O.", A3 A5, A^5 (io) "General purpose I/O.", A6 A1, A^0 (io) "General purpose I/O.", B3 A6, A^6 (io) "General purpose I/O.", B6 A2, A^1 (io) "General purpose I/O.", C2 A8, A^8 (io) "General purpose I/O.", C4 A4, A^4 (io) "General purpose I/O.", C6 A3, A^2 (io) "General purpose I/O.", C7 A0/GOE0 (io) "Either Global Output Enable Input or general I/O.", D1 A9, A^9 (io) "General purpose I/O.", D2 A11, A^11 (io) "General purpose I/O.", D3 A10, A^10 (io) "General purpose I/O.", F1 A13, A^13 (io) "General purpose I/O.", F2 A12, A^12 (io) "General purpose I/O.", F3 A14, A^14 (io) "General purpose I/O.", G1 A15, A^15 (io) "General purpose I/O.", H1 B15, B^15 (io) "General purpose I/O.", H3 B14, B^14 (io) "General purpose I/O.", J1 B13, B^13 (io) "General purpose I/O.", J2 B12, B^12 (io) "General purpose I/O.", K3 B11, B^11 (io) "General purpose I/O.", L1 B9, B^9 (io) "General purpose I/O.", L2 B10, B^10 (io) "General purpose I/O.", L3 B8, B^8 (io) "General purpose I/O.", M3 B6, B^6 (io) "General purpose I/O.", M5 B3, B^3 (io) "General purpose I/O.", M6 B0, B^0 (io) "General purpose I/O.", N3 B5, B^5 (io) "General purpose I/O.", N6 B2, B^2 (io) "General purpose I/O.", P3 B7, B^7 (io) "General purpose I/O.", P4 B4, B^4 (io) "General purpose I/O.", P6 B1, B^1 (io) "General purpose I/O."
part B pins: A8 D0/GOE1, D^0 (io) "Either Global Output Enable Input or general I/O.", A9 D2, D^2 (io) "General purpose I/O.", A11 D5, D^5 (io) "General purpose I/O.", B9 D3, D^3 (io) "General purpose I/O.", B12 D6, D^6 (io) "General purpose I/O.", C9 D1, D^1 (io) "General purpose I/O.", C11 D4, D^4 (io) "General purpose I/O.", C12 D7, D^7 (io) "General purpose I/O.", D12 D8, D^8 (io) "General purpose I/O.", D13 D10, D^10 (io) "General purpose I/O.", D14 D9, D^9 (io) "General purpose I/O.", E12 D11, D^11 (io) "General purpose I/O.", F12 D12, D^12 (io) "General purpose I/O.", F13 D13, D^13 (io) "General purpose I/O.", F14 D14, D^14 (io) "General purpose I/O.", G12 D15, D^15 (io) "General purpose I/O.", H14 C15, C^15 (io) "General purpose I/O.", J12 C14, C^14 (io) "General purpose I/O.", J13 C12, C^12 (io) "General purpose I/O.", J14 C13, C^13 (io) "General purpose I/O.", L12 C10, C^10 (io) "General purpose I/O.", L13 C11, C^11 (io) "General purpose I/O.", L14 C9, C^9 (io) "General purpose I/O.", M9 C2, C^2 (io) "General purpose I/O.", M11 C4, C^4 (io) "General purpose I/O.", M13 C8, C^8 (io) "General purpose I/O.", N9 C1, C^1 (io) "General purpose I/O.", N10 C3, C^3 (io) "General purpose I/O.", N12 C6, C^6 (io) "General purpose I/O.", P9 C0, C^0 (io) "General purpose I/O.", P12 C5, C^5 (io) "General purpose I/O.", P13 C7, C^7 (io) "General purpose I/O."
part C pins: B8 CLK3/I (in) "Either CLK input or input.", C8 CLK0/I (in) "Either CLK input or input.", M7 CLK2/I (in) "Either CLK input or input.", N7 CLK1/I (in) "Either CLK input or input."
part D pins: B2 TDI (in) "Test Data Input. Loads data into device using 1149.1 state machine.", B14 TDO (out) "Test Data Output. Shifts data out of device using 1149.1.", N1 TCK (in) "Test Clock Input for 1149.1 state machine.", N13 TMS (in) "Test Mode Select Input to control 1149.1 state machine."
part E pins: A10 VCCO (Bank1) (power) "Power supply pin for I/O bank.", A14 VCC (power) "Power supply for logic core and JTAG port.", B7 VCC (power) "Power supply for logic core and JTAG port.", C5 VCCO (Bank0) (power) "Power supply pin for I/O bank.", G3 VCCO (Bank0) (power) "Power supply pin for I/O bank.", H12 VCCO (Bank1) (power) "Power supply pin for I/O bank.", M10 VCCO (Bank1) (power) "Power supply pin for I/O bank.", N8 VCC (power) "Power supply for logic core and JTAG port.", P1 VCC (power) "Power supply for logic core and JTAG port.", P5 VCCO (Bank0) (power) "Power supply pin for I/O bank."
part F pins: A13 GND (power) "Ground", B1 GND (power) "Ground", B4 GND (Bank0) (power) "I/O Ground", B11 GND (Bank1) (power) "I/O Ground", E2 GND (Bank0) (power) "I/O Ground", E13 GND (Bank1) (power) "I/O Ground", K2 GND (Bank0) (power) "I/O Ground", K13 GND (Bank1) (power) "I/O Ground", N4 GND (Bank0) (power) "I/O Ground", N11 GND (Bank1) (power) "I/O Ground", N14 GND (power) "Ground", P2 GND (power) "Ground"
part G pins: A12 I (in) "Input Signal Pin.", C14 I (in) "Input Signal Pin.", G2 I (in) "Input Signal Pin.", H13 I (in) "Input Signal Pin.", M1 I (in) "Input Signal Pin.", N2 I (in) "Input Signal Pin."
part H pins: A1 NC "Not Connected.", A4 NC "Not Connected.", A5 NC "Not Connected.", A7 NC "Not Connected.", B5 NC "Not Connected, A^3.", B10 NC "Not Connected.", B13 NC "Not Connected.", C1 NC "Not Connected.", C3 NC "Not Connected.", C10 NC "Not Connected.", C13 NC "Not Connected.", E1 NC "Not Connected.", E3 NC "Not Connected.", E14 NC "Not Connected.", G13 NC "Not Connected.", G14 NC "Not Connected.", H2 NC "Not Connected.", J3 NC "Not Connected.", K1 NC "Not Connected.", K12 NC "Not Connected.", K14 NC "Not Connected.", M2 NC "Not Connected.", M4 NC "Not Connected.", M8 NC "Not Connected.", M12 NC "Not Connected.", M14 NC "Not Connected.", N5 NC "Not Connected.", P7 NC "Not Connected.", P8 NC "Not Connected.", P10 NC "Not Connected.", P11 NC "Not Connected.", P14 NC "Not Connected."
part A text: BANK 0
part B text: BANK 1

## LC4064ZC-5MN56C
designator U?
ispMACH 4064 SuperFAST High Density PLD, 1.8 V, 32 User I/Os, 56-Ball caBGA, 5.0 ns, Commercial Grade, Pb-Free; Note: For device migration considerations, pins K3, J1, F10, F8, E3, E1, B10, A8 are NC in ispMACH 4032Z devices.; Published: 19-Mar-2004; LatestRevisionDate: 30-Mar-2007; LatestRevisionNote: Banks placed in parts.; DatasheetVersion: ver22.3, Mar-2007; PackageVersion: ver01.2 Feb-2007; PackageReference: csBGA56; Publisher: Altium Limited; PackageDescription: 56-Ball Chip Scale Ball Grid Array (csBGA56); ComponentLink1Description: Manufacturer Link; ComponentLink1URL: http://www.latticesemi.com/; ComponentLink2Description: Datasheet; ComponentLink2URL: http://www.latticesemi.com/dynamic/view_document.cfm?document_id=3646
footprint csBGA56 (BGA, 56-Leads, Body 6x6mm, Pitch 0.5mm)
3D model 4064ZC-csBGA56 (56-Ball Chip Scale Ball Grid Array (csBGA56))
part A pins: A1 A6, A^4 (io) "General purpose I/O.", A2 A4, A^3 (io) "General purpose I/O.", A3 A2, A^2 (io) "General purpose I/O.", A4 A1, A^1 (io) "General purpose I/O.", C1 A10, A^6 (io) "General purpose I/O.", C3 A8, A^5 (io) "General purpose I/O.", C4 A0/GOE0, A^0 (io) "Either Global Output Enable Input or general I/O.", D1 A11, A^7 (io) "General purpose I/O.", F1 B15, B^7 (io) "General purpose I/O.", G1 B10, B^5 (io) "General purpose I/O.", G3 B12, B^6 (io) "General purpose I/O.", H1 B8, B^4 (io) "General purpose I/O.", H4 B4, B^2 (io) "General purpose I/O.", H5 B2, B^1 (io) "General purpose I/O.", K4 B6, B^3 (io) "General purpose I/O.", K5 B0, B^0 (io) "General purpose I/O."
part B pins: A6 D0/GOE1, D^0 (io) "Either Global Output Enable Input or general I/O.", A7 D6, D^3 (io) "General purpose I/O.", C6 D2, D^1 (io) "General purpose I/O.", C7 D4, D^2 (io) "General purpose I/O.", C10 D8, D^4 (io) "General purpose I/O.", D8 D12, D^6 (io) "General purpose I/O.", D10 D10, D^5 (io) "General purpose I/O.", E10 D15, D^7 (io) "General purpose I/O.", G10 C11, C^7 (io) "General purpose I/O.", H7 C0, C^0 (io) "General purpose I/O.", H8 C8, C^5 (io) "General purpose I/O.", H10 C10, C^6 (io) "General purpose I/O.", K7 C1, C^1 (io) "General purpose I/O.", K8 C2, C^2 (io) "General purpose I/O.", K9 C4, C^3 (io) "General purpose I/O.", K10 C6, C^4 (io) "General purpose I/O."
part C pins: A5 CLK0/I (in) "Either CLK input or input.", C5 CLK3/I (in) "Either CLK input or input.", H6 CLK1/I (in) "Either CLK input or input.", K6 CLK2/I (in) "Either CLK input or input."
part D pins: A10 TDO (out) "Test Data Output. Shifts data out of device using 1149.1.", B1 TDI (in) "Test Data Input. Loads data into device using 1149.1 state machine.", J10 TMS (in) "Test Mode Select Input to control 1149.1 state machine.", K1 TCK (in) "Test Clock Input for 1149.1 state machine."
part E pins: A9 VCC (power) "Power supply for logic core and JTAG port.", E8 VCCO (Bank1) (power) "Power supply pin for I/O bank.", F3 VCCO (Bank0) (power) "Power supply pin for I/O bank.", K2 VCC (power) "Power supply for logic core and JTAG port."
part F pins: C8 GND (power) "Ground", D3 GND (Bank0) (power) "I/O Ground", G8 GND (Bank1) (power) "I/O Ground", H3 GND (power) "Ground"
part G pins: A8 I (in) "Input Signal Pin.", B10 I (in) "Input Signal Pin.", E1 I (in) "Input Signal Pin.", E3 I (in) "Input Signal Pin.", F8 I (in) "Input Signal Pin.", F10 I (in) "Input Signal Pin.", J1 I (in) "Input Signal Pin.", K3 I (in) "Input Signal Pin."
part A text: BANK 0
part B text: BANK 1